# EAGLE library part STM32F446VET6_PORT_BREAKOUT (library U-ST-STM32F446VE-uC)
STMICROELECTRONICS - STM32F446VET6 - MCU, 32BIT, CORTEX-M4, 180MHZ, LQFP-100 Source: Datasheet <https://www.mouser.com/datasheet/2/389/stm32f446mc-956216.pdf>
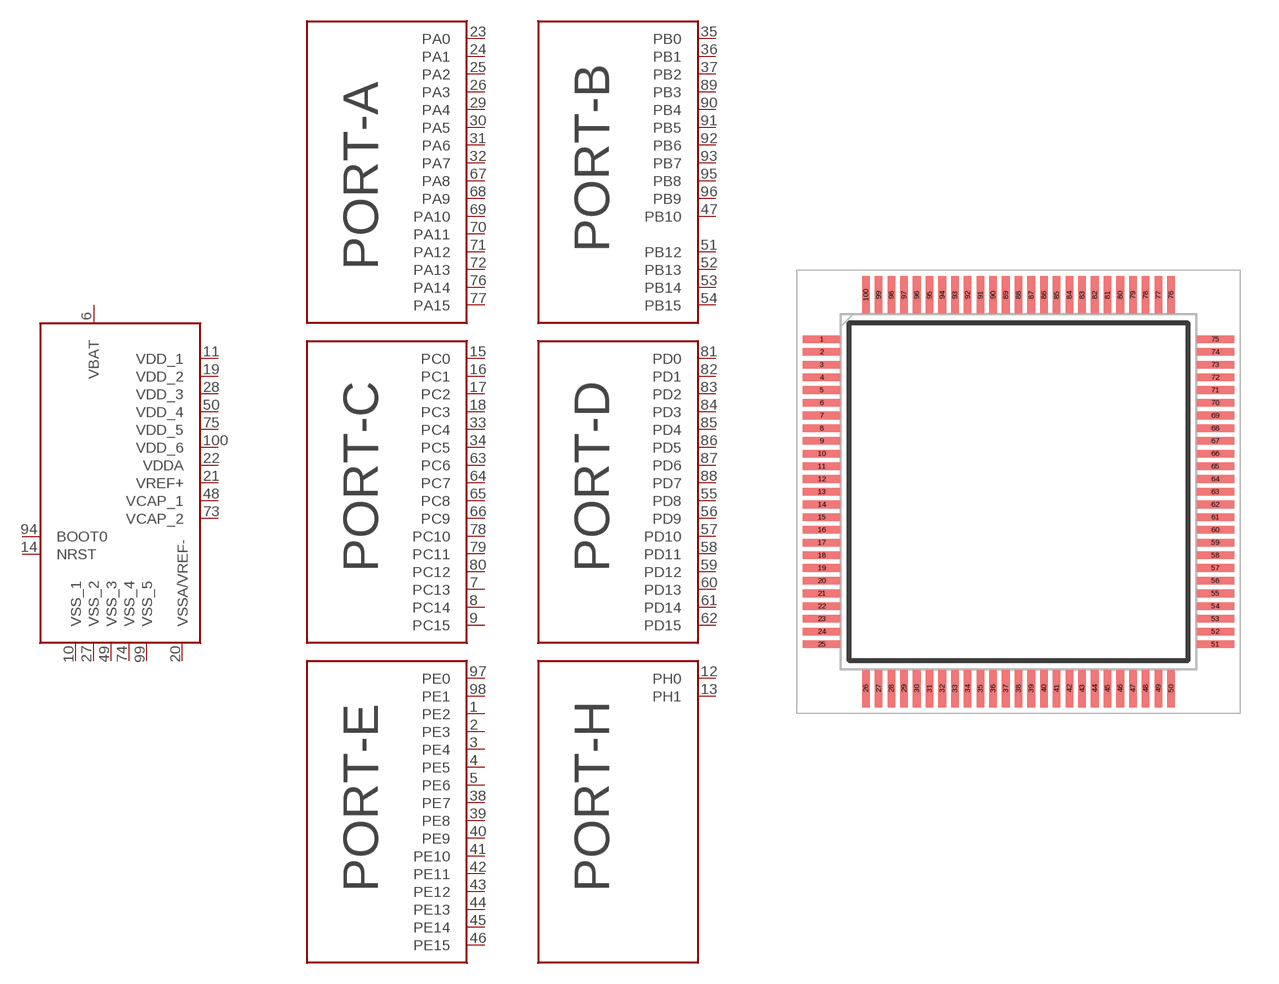
[diagram p2: symbol with the pads of QFP50P1600X1600X160-100N; footprint QFP50P1600X1600X160-100N]

Designator prefix IC; gates G$1=STM32F446VET6_PORT_A G$2=STM32F446VET6_PORT_B G$3=STM32F446VET6_PORT_C G$4=STM32F446VET6_PORT_D G$5=STM32F446VET6_PORT_E G$6=STM32F446VET6_PORT_H G$7=STM32F446VET6_SYSTEM

## STM32F446VET6_PORT_BREAKOUT (DESCRIPTION: STMICROELECTRONICS - STM32F446VET6 - MCU, 32BIT, CORTEX-M4, 180MHZ, LQFP-100; HEIGHT: 1.6mm; MANUFACTURER_NAME: STMicroelectronics; MANUFACTURER_PART_NUMBER: STM32F446VET6; MOUSER_PART_NUMBER: 511-STM32F446VET6; MOUSER_PRICE-STOCK: https://www.mouser.com/Search/Refine.aspx?Keyword=511-STM32F446VET6; RS_PART_NUMBER: 1962043; RS_PRICE-STOCK: http://uk.rs-online.com/web/p/products/1962043)  [QFP50P1600X1600X160-100N]
1  G$5:PE2
2  G$5:PE3
3  G$5:PE4
4  G$5:PE5
5  G$5:PE6
6  G$7:VBAT
7  G$3:PC13
8  G$3:PC14
9  G$3:PC15
10  G$7:VSS_1
11  G$7:VDD_1
12  G$6:PH0
13  G$6:PH1
14  G$7:NRST
15  G$3:PC0
16  G$3:PC1
17  G$3:PC2
18  G$3:PC3
19  G$7:VDD_2
20  G$7:VSSA/VREF-
21  G$7:VREF+
22  G$7:VDDA
23  G$1:PA0
24  G$1:PA1
25  G$1:PA2
26  G$1:PA3
27  G$7:VSS_2
28  G$7:VDD_3
29  G$1:PA4
30  G$1:PA5
31  G$1:PA6
32  G$1:PA7
33  G$3:PC4
34  G$3:PC5
35  G$2:PB0
36  G$2:PB1
37  G$2:PB2
38  G$5:PE7
39  G$5:PE8
40  G$5:PE9
41  G$5:PE10
42  G$5:PE11
43  G$5:PE12
44  G$5:PE13
45  G$5:PE14
46  G$5:PE15
47  G$2:PB10
48  G$7:VCAP_1
49  G$7:VSS_3
50  G$7:VDD_4
51  G$2:PB12
52  G$2:PB13
53  G$2:PB14
54  G$2:PB15
55  G$4:PD8
56  G$4:PD9
57  G$4:PD10
58  G$4:PD11
59  G$4:PD12
60  G$4:PD13
61  G$4:PD14
62  G$4:PD15
63  G$3:PC6
64  G$3:PC7
65  G$3:PC8
66  G$3:PC9
67  G$1:PA8
68  G$1:PA9
69  G$1:PA10
70  G$1:PA11
71  G$1:PA12
72  G$1:PA13
73  G$7:VCAP_2
74  G$7:VSS_4
75  G$7:VDD_5
76  G$1:PA14
77  G$1:PA15
78  G$3:PC10
79  G$3:PC11
80  G$3:PC12
81  G$4:PD0
82  G$4:PD1
83  G$4:PD2
84  G$4:PD3
85  G$4:PD4
86  G$4:PD5
87  G$4:PD6
88  G$4:PD7
89  G$2:PB3
90  G$2:PB4
91  G$2:PB5
92  G$2:PB6
93  G$2:PB7
94  G$7:BOOT0
95  G$2:PB8
96  G$2:PB9
97  G$5:PE0
98  G$5:PE1
99  G$7:VSS_5
100  G$7:VDD_6

## Footprint QFP50P1600X1600X160-100N (pad centres in mm)
STM32F446VET6
smd 1.475 x 0.3: 1 -7.738,6; 2 -7.738,5.5; 3 -7.738,5; 4 -7.738,4.5; 5 -7.738,4; 6 -7.738,3.5; 7 -7.738,3; 8 -7.738,2.5; 9 -7.738,2; 10 -7.738,1.5; 11 -7.738,1; 12 -7.738,0.5; 13 -7.738,0; 14 -7.738,-0.5; 15 -7.738,-1; 16 -7.738,-1.5; 17 -7.738,-2; 18 -7.738,-2.5; 19 -7.738,-3; 20 -7.738,-3.5; 21 -7.738,-4; 22 -7.738,-4.5; 23 -7.738,-5; 24 -7.738,-5.5; 25 -7.738,-6; 51 7.738,-6; 52 7.738,-5.5; 53 7.738,-5; 54 7.738,-4.5; 55 7.738,-4; 56 7.738,-3.5; 57 7.738,-3; 58 7.738,-2.5; 59 7.738,-2; 60 7.738,-1.5; 61 7.738,-1; 62 7.738,-0.5; 63 7.738,0; 64 7.738,0.5; 65 7.738,1; 66 7.738,1.5; 67 7.738,2; 68 7.738,2.5; 69 7.738,3; 70 7.738,3.5; 71 7.738,4; 72 7.738,4.5; 73 7.738,5; 74 7.738,5.5; 75 7.738,6
smd 0.3 x 1.475: 26 -6,-7.738; 27 -5.5,-7.738; 28 -5,-7.738; 29 -4.5,-7.738; 30 -4,-7.738; 31 -3.5,-7.738; 32 -3,-7.738; 33 -2.5,-7.738; 34 -2,-7.738; 35 -1.5,-7.738; 36 -1,-7.738; 37 -0.5,-7.738; 38 0,-7.738; 39 0.5,-7.738; 40 1,-7.738; 41 1.5,-7.738; 42 2,-7.738; 43 2.5,-7.738; 44 3,-7.738; 45 3.5,-7.738; 46 4,-7.738; 47 4.5,-7.738; 48 5,-7.738; 49 5.5,-7.738; 50 6,-7.738; 76 6,7.738; 77 5.5,7.738; 78 5,7.738; 79 4.5,7.738; 80 4,7.738; 81 3.5,7.738; 82 3,7.738; 83 2.5,7.738; 84 2,7.738; 85 1.5,7.738; 86 1,7.738; 87 0.5,7.738; 88 0,7.738; 89 -0.5,7.738; 90 -1,7.738; 91 -1.5,7.738; 92 -2,7.738; 93 -2.5,7.738; 94 -3,7.738; 95 -3.5,7.738; 96 -4,7.738; 97 -4.5,7.738; 98 -5,7.738; 99 -5.5,7.738; 100 -6,7.738